# EAGLE library part SI8235 (library silicon-labs)
Si8232/Si8235 Isolated dual independent gate drivers / line drivers Silicon Labs Si8232/35 isolated gate drivers. The Si823x series are dual gate drivers with independently isolated output sections. The '32 and '35 parts have independent inputs for each channel with a common disable input. The 8232 has dual 0.5A gate drivers, while 8235 has 4A gate drivers. The require a 4.5-5.5V supply on the input side, and 6.5-24V on the gate driver side. The outputs are isolated from each other, and either can be used as a high side driver. If 3V operation is needed, the Si8420 digital isolator combined with independent gate drivers may be an option, however that combination does not provide independent isolation for the outputs. This part has a second use as an isolated line driver with strong drive capability. Carefully consider the under-voltage drop-out rating of 5, 8 or 10V when used this way. Use a 0.1uF capacitor within 20mm of Vdd and Gnd on the input side, and at least 1uF on each driver supply. http://www.silabs.com/Support%20Documents/TechnicalDocs/Si823x.pdf Donald Becker
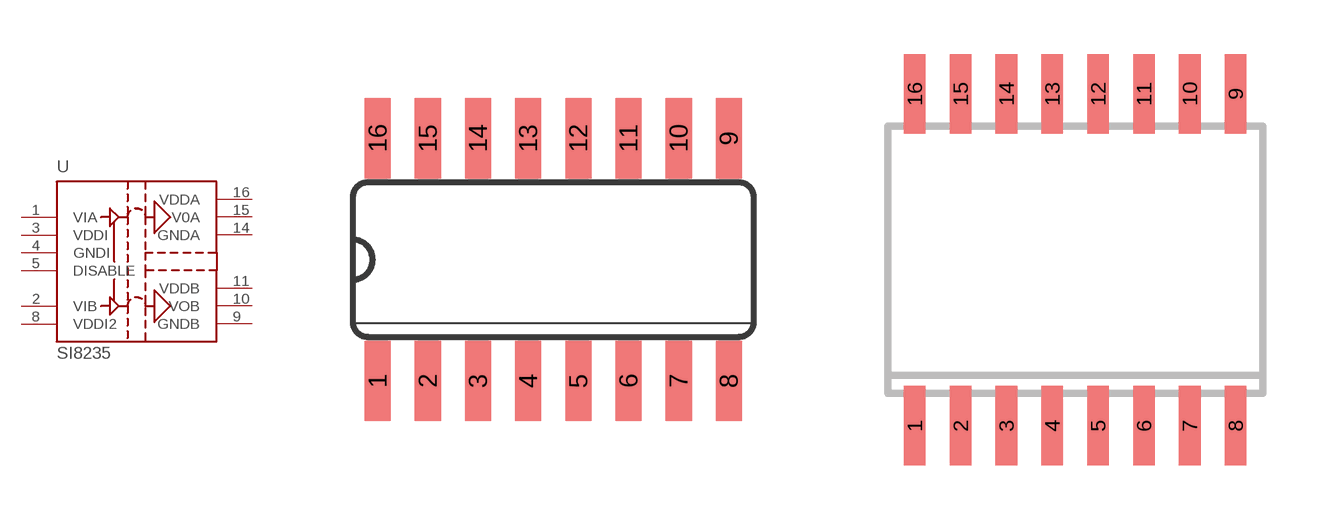
[diagram p19: symbol with the pads of SO16; footprints SO16, SO16W]

Designator prefix -

## SI8235-IS1  [SO16]
1  VIA  in
2  VIB  in
3  VDDI  pwr
4  GNDI  sup
5  DISABLE  in
8  VDDI2  sup
9  GNDB  pwr
10  VOB  out
11  VDDB  pwr
14  GNDA  pwr
15  V0A  out
16  VDDA  pwr

## SI8235-IS  [SO16W]
Pads as for SO16

## Footprint SO16 (pad centres in mm)
SO-16 Small Outline package 150 mil SOIC16 Small Outline Integrated Circuit 16 pin narrow SOIC16 / SO-16 Narrow body 0.150", JEDEC MS-012
smd 0.66 x 2.032: 1 -4.445,-3.073; 2 -3.175,-3.073; 3 -1.905,-3.073; 4 -0.635,-3.073; 5 0.635,-3.073; 6 1.905,-3.073; 7 3.175,-3.073; 8 4.445,-3.073; 9 4.445,3.073; 10 3.175,3.073; 11 1.905,3.073; 12 0.635,3.073; 13 -0.635,3.073; 14 -1.905,3.073; 15 -3.175,3.073; 16 -4.445,3.073

## Footprint SO16W (pad centres in mm)
SOIC16_W Small Outline Integrated Circuit 16 pin 0.300 wide SOIC16_W SMALL OUTLINE INTEGRATED CIRCUIT 16 pin Wide SOIC16-W Wide body (RW-16) 0.3", JEDEC MS-013-AA
smd 0.6 x 2.2: 1 -4.445,-4.6; 2 -3.175,-4.6; 3 -1.905,-4.6; 4 -0.635,-4.6; 5 0.635,-4.6; 6 1.905,-4.6; 7 3.175,-4.6; 8 4.445,-4.6; 9 4.445,4.6; 10 3.175,4.6; 11 1.905,4.6; 12 0.635,4.6; 13 -0.635,4.6; 14 -1.905,4.6; 15 -3.175,4.6; 16 -4.445,4.6